# Altium footprint library SamacSys.PcbLib: 128 footprints (part 2 of 8)
Each footprint in its own frame and in the unit in brackets; x right, y up, seen from the top. Pads: shape width x height; smd on the part's side, far side on the other; paste and mask are expansions set on the pad; w line width, h text height; cw(c..) or ccw(c..) is an arc to the next point about the centre after c.
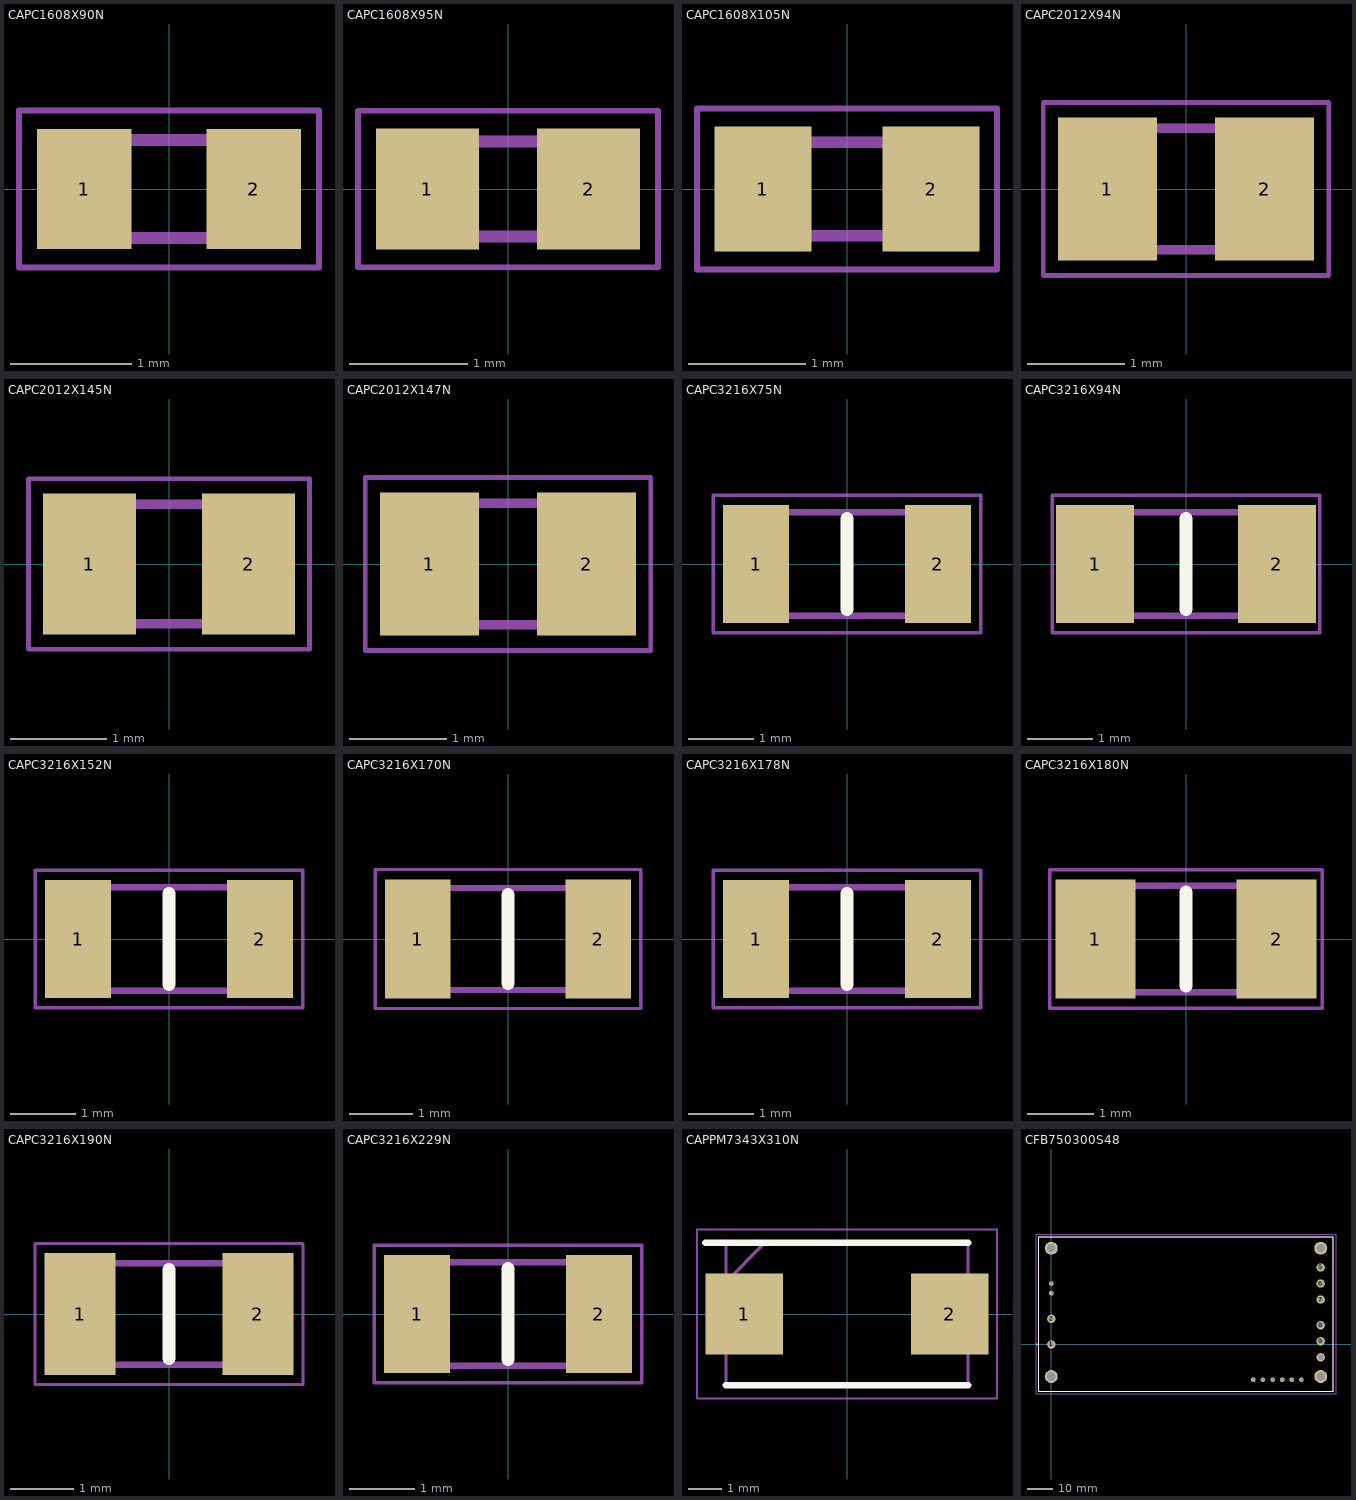
[diagram p1: the footprints below, top view; thin cyan lines are the x and y axes]

## CAPC1608X90N [mm]
pads (2):
  rect 0.78x0.99 smd: 1(-0.7,0) 2(0.7,0)
Mechanical 13:
  lines w0.1: -0.8,-0.405 -0.8,0.405 0.8,0.405 0.8,-0.405 -0.8,-0.405
Mechanical 15:
  lines w0.05: -1.24,-0.65 -1.24,0.65 1.24,0.65 1.24,-0.65 -1.24,-0.65
3D body "06035C104J4Z2A.stp": height 0.91, standoff 0, extent -0.76,-0.38 0.76,0.38

## CAPC1608X95N [mm]
pads (2):
  rect 0.87x1.02 smd: 1(-0.68,0) 2(0.68,0)
Mechanical 13:
  lines w0.1: -0.8,-0.4 -0.8,0.4 0.8,0.4 0.8,-0.4 -0.8,-0.4
Mechanical 15:
  lines w0.05: -1.265,-0.66 -1.265,0.66 1.265,0.66 1.265,-0.66 -1.265,-0.66
3D body "0603B472M500CT.stp": height 0.95, standoff 0, extent -0.8,-0.4 0.8,0.4

## CAPC1608X105N [mm]
pads (2):
  rect 0.83x1.07 smd: 1(-0.72,0) 2(0.72,0)
Mechanical 13:
  lines w0.1: -0.8,-0.4 -0.8,0.4 0.8,0.4 0.8,-0.4 -0.8,-0.4
Mechanical 15:
  lines w0.05: -1.285,-0.69 -1.285,0.69 1.285,0.69 1.285,-0.69 -1.285,-0.69
3D body "CL10A226MP8NUNE.stp": height 1.05, standoff 0, extent -0.8,-0.4 0.8,0.4

## CAPC2012X94N [mm]
pads (2):
  rect 1.02x1.47 smd: 1(-0.81,0) 2(0.81,0)
Mechanical 13:
  lines w0.1: -1.005,-0.625 -1.005,0.625 1.005,0.625 1.005,-0.625 -1.005,-0.625
Mechanical 15:
  lines w0.05: -1.47,-0.89 -1.47,0.89 1.47,0.89 1.47,-0.89 -1.47,-0.89
3D body "08055C104KAZ2A.stp": height 0.94, standoff 0, extent -1.005,-0.625 1.005,0.625

## CAPC2012X145N [mm]
pads (2):
  rect 0.97x1.47 smd: 1(-0.83,0) 2(0.83,0)
Mechanical 13:
  lines w0.1: -1,-0.625 -1,0.625 1,0.625 1,-0.625 -1,-0.625
Mechanical 15:
  lines w0.05: -1.465,-0.89 -1.465,0.89 1.465,0.89 1.465,-0.89 -1.465,-0.89
3D body "GRM21BR61H475ME51L.stp": height 1.45, standoff 0, extent -1,-0.625 1,0.625

## CAPC2012X147N [mm]
pads (2):
  rect 1.02x1.47 smd: 1(-0.81,0) 2(0.81,0)
Mechanical 13:
  lines w0.1: -1.005,-0.625 -1.005,0.625 1.005,0.625 1.005,-0.625 -1.005,-0.625
Mechanical 15:
  lines w0.05: -1.47,-0.89 -1.47,0.89 1.47,0.89 1.47,-0.89 -1.47,-0.89
3D body "KGF21BR71H104KT.stp": height 1.47, standoff 0, extent -1.005,-0.625 1.005,0.625

## CAPC3216X75N [mm]
pads (2):
  rect 1.02x1.82 smd: 1(-1.4,0) 2(1.4,0)
Top Overlay:
  lines w0.2: 0,-0.7 0,0.7
Mechanical 13:
  lines w0.1: -1.6,-0.8 1.6,-0.8 1.6,0.8 -1.6,0.8 -1.6,-0.8
Mechanical 15:
  lines w0.05: -2.06,-1.06 2.06,-1.06 2.06,1.06 -2.06,1.06 -2.06,-1.06
3D body "KAM31GR71H475KL.stp": height 0.75, standoff 0, extent -1.6,-0.8 1.6,0.8

## CAPC3216X94N [mm]
pads (2):
  rect 1.2x1.82 smd: 1(-1.4,0) 2(1.4,0)
Top Overlay:
  lines w0.2: 0,-0.7 0,0.7
Mechanical 13:
  lines w0.1: -1.6,-0.8 1.6,-0.8 1.6,0.8 -1.6,0.8 -1.6,-0.8
Mechanical 15:
  lines w0.05: -2.06,-1.06 2.06,-1.06 2.06,1.06 -2.06,1.06 -2.06,-1.06
3D body "12065C104J4Z2A.stp": height 0.94, standoff 0, extent -1.6,-0.8 1.6,0.8

## CAPC3216X152N [mm]
pads (2):
  rect 1.02x1.82 smd: 1(-1.4,0) 2(1.4,0)
Top Overlay:
  lines w0.2: 0,-0.7 0,0.7
Mechanical 13:
  lines w0.1: -1.6,-0.8 -1.6,0.8 1.6,0.8 1.6,-0.8 -1.6,-0.8
Mechanical 15:
  lines w0.05: -2.06,-1.06 -2.06,1.06 2.06,1.06 2.06,-1.06 -2.06,-1.06
3D body "KAF31ER71H474KL.stp": height 1.52, standoff 0, extent -1.6,-0.8 1.6,0.8

## CAPC3216X170N [mm]
pads (2):
  rect 1.03x1.87 smd: 1(-1.42,0) 2(1.42,0)
Top Overlay:
  lines w0.2: 0,-0.7 0,0.7
Mechanical 13:
  lines w0.1: -1.6,-0.8 -1.6,0.8 1.6,0.8 1.6,-0.8 -1.6,-0.8
Mechanical 15:
  lines w0.05: -2.085,-1.09 -2.085,1.09 2.085,1.09 2.085,-1.09 -2.085,-1.09
3D body "VJ1206Y223KXBAC.stp": height 1.7, standoff 0, extent -1.6,-0.8 1.6,0.8

## CAPC3216X178N [mm]
pads (2):
  rect 1.02x1.82 smd: 1(-1.4,0) 2(1.4,0)
Top Overlay:
  lines w0.2: 0,-0.7 0,0.7
Mechanical 13:
  lines w0.1: -1.6,-0.8 1.6,-0.8 1.6,0.8 -1.6,0.8 -1.6,-0.8
Mechanical 15:
  lines w0.05: -2.06,-1.06 2.06,-1.06 2.06,1.06 -2.06,1.06 -2.06,-1.06
3D body "12065C475K4T4A.stp": height 1.78, standoff 0, extent -1.6,-0.8 1.6,0.8

## CAPC3216X180N [mm]
pads (2):
  rect 1.2x1.78 smd: 1(-1.36,0) 2(1.36,0)
Top Overlay:
  lines w0.2: 0,-0.7 0,0.7
Mechanical 13:
  lines w0.1: -1.6,-0.8 1.6,-0.8 1.6,0.8 -1.6,0.8 -1.6,-0.8
Mechanical 15:
  lines w0.05: -2.045,-1.04 2.045,-1.04 2.045,1.04 -2.045,1.04 -2.045,-1.04
3D body "HMK316B7105KLHT.stp": height 1.8, standoff 0, extent -1.6,-0.8 1.6,0.8

## CAPC3216X190N [mm]
pads (2):
  rect 1.12x1.92 smd: 1(-1.4,0) 2(1.4,0)
Top Overlay:
  lines w0.2: 0,-0.7 0,0.7
Mechanical 13:
  lines w0.1: -1.6,-0.8 -1.6,0.8 1.6,0.8 1.6,-0.8 -1.6,-0.8
Mechanical 15:
  lines w0.05: -2.11,-1.11 -2.11,1.11 2.11,1.11 2.11,-1.11 -2.11,-1.11
3D body "CL31X107MQKNNWE.stp": height 1.9, standoff 0, extent -1.6,-0.8 1.6,0.8

## CAPC3216X229N [mm]
pads (2):
  rect 1.02x1.82 smd: 1(-1.4,0) 2(1.4,0)
Top Overlay:
  lines w0.2: 0,-0.7 0,0.7
Mechanical 13:
  lines w0.1: -1.6,-0.8 1.6,-0.8 1.6,0.8 -1.6,0.8 -1.6,-0.8
Mechanical 15:
  lines w0.05: -2.06,-1.06 2.06,-1.06 2.06,1.06 -2.06,1.06 -2.06,-1.06
3D body "12063D106KAT2A.stp": height 2.29, standoff 0, extent -1.6,-0.8 1.6,0.8

## CAPPM7343X310N [mm]
pads (2):
  rect 2.35x2.45 smd: 1(-3.1,0) 2(3.1,0)
Top Overlay:
  lines w0.2: -4.275,2.15 3.65,2.15 ; -3.65,-2.15 3.65,-2.15
Mechanical 13:
  lines w0.1: -3.65,0.975 -2.475,2.15 ; -3.65,-2.15 -3.65,2.15 3.65,2.15 3.65,-2.15 -3.65,-2.15
Mechanical 15:
  lines w0.05: -4.525,-2.55 -4.525,2.55 4.525,2.55 4.525,-2.55 -4.525,-2.55
3D body "293D107X0010D2TE3.stp": height 2.92, standoff 0, extent -3.59,-2.209 3.598,2.207

## CFB750300S48 [mm]
pads (20):
  round 3.3 hole 2.2: 1(0,0) 2(0,10.16) 5(106.68,30.48) 6(106.68,24.13) 7(106.68,17.78) 8(106.68,7.62) 9(106.68,1.27) 10(106.68,-5.08)
  round 1.8 hole 1.2: 3(0,20.32) 4(0,24.13) 11(99.06,-13.97) 12(95.25,-13.97) 13(91.44,-13.97) 14(87.63,-13.97) 15(83.82,-13.97) 16(80.01,-13.97)
  round 5.1 hole 3.5: MH1(106.68,38.1) MH2(0,38.1) MH3(0,-12.7) MH4(106.68,-12.7)
Top Overlay:
  lines w0.1: -5.06,-18.435 -5.06,42.565 111.74,42.565 111.74,-18.435 -5.06,-18.435
  lines w0.2: -5.6,-0.1 cw(c-5.6,0) -5.6,0.1 cw(c-5.6,0) -5.6,-0.1
Mechanical 13:
  lines w0.2: -5.06,-18.435 -5.06,42.565 111.74,42.565 111.74,-18.435 -5.06,-18.435
Mechanical 15:
  lines w0.1: -6.06,-19.435 -6.06,43.565 112.74,43.565 112.74,-19.435 -6.06,-19.435
3D body "CFB750-300S24.stp": height 12.8, standoff -5, extent -5.06,-18.435 111.74,42.565